# Altium schematic symbol library XT-60.SchLib: 1 symbol
Pins are listed as number, name and electrical type; pins without a type are passive.

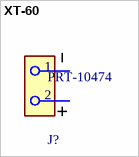
[diagram p0: symbol XT-60]

## XT-60
designator J?, comment PRT-10474
XT60 CONNECTORS MALE/FEMALE PAIR
footprint XT-60
text: 1; 2